# Altium schematic symbol library Passives.SchLib: 42 symbols
Pins are listed as number, name and electrical type; pins without a type are passive.

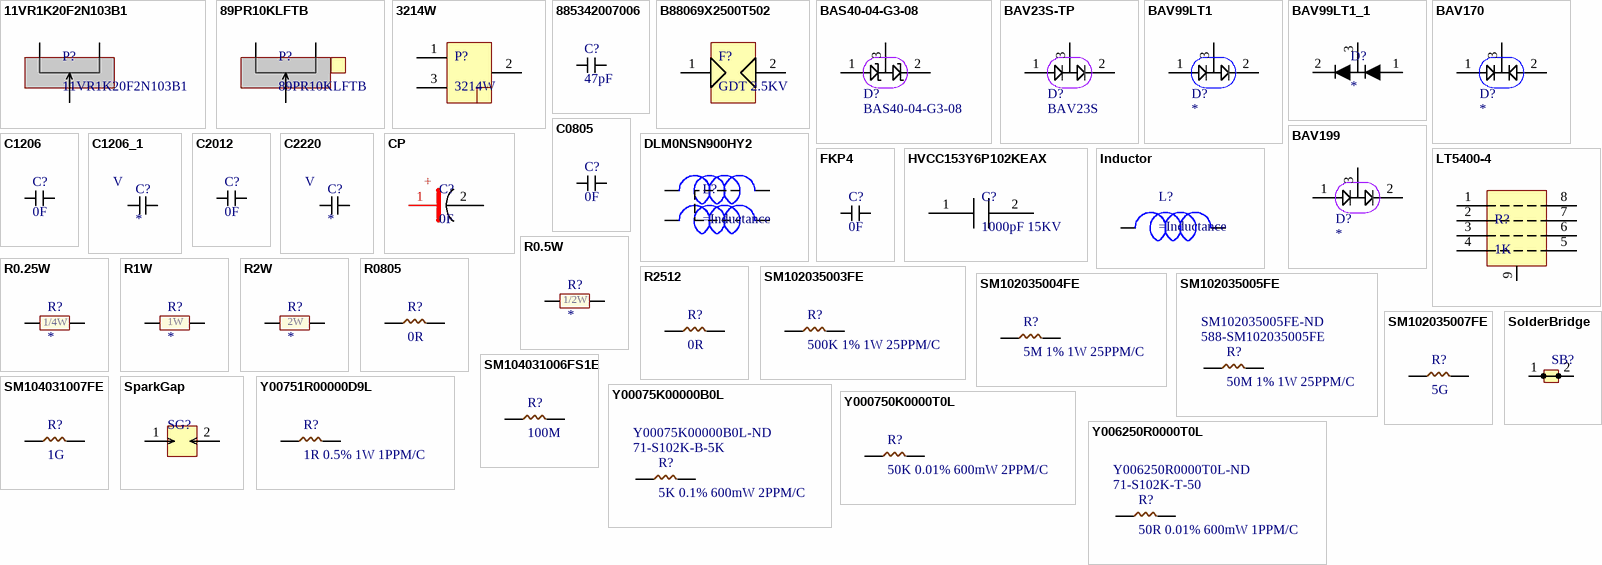
[diagram p0: symbols 11VR1K20F2N103B1 to Y006250R0000T0L]

## 11VR1K20F2N103B1
designator P?
POT 10K PCB; Supplier 1: Digi-Key; Supplier 2: Mouser; Supplier Part Number 1: CT3216-ND; Supplier Part Number 2: 774-11VR1K20F2N103B1
footprint 11VR1K20F2N103B1
pins: 1, 2, 3

## 89PR10KLFTB
designator P?
Supplier 1: Digi-Key; Supplier 2: Mouser; Supplier Part Number 1: 987-1801-5-ND; Supplier Part Number 2: 858-89PR10KLFTB
footprint 89PR10KLFTB (Footprint not found)
pins: 1, 2, 3

## 3214W
designator P?
Bourns 3214W Resistor Trimmer; Resistance: 10K
footprint 3214W (Footprint not found)
pins: 1, 2, 3

## 885342007006
designator C?, comment 47pF
47 pF ±5% 500V Ceramic Capacitor C0G, NP0 0805 (2012 Metric); Capacitance: 47pF; Supplier 1: Digi-Key; Supplier Part Number 1: 732-12170-1-ND
footprint C0805 (Footprint not found)
pins: 1, 2

## B88069X2500T502
designator F?, comment GDT 2.5KV
Gas Discharge Tube 2500 V 2000A (2kA) ±20% 2 Pole Through Hole
footprint GDT (Footprint not found)
pins: 1, 2

## BAS40-04-G3-08
designator D?
Supplier 1: Digi-Key; Supplier 2: Mouser; Supplier Part Number 1: BAS40-04-G3-08GICT-ND; Supplier Part Number 2: 78-BAS40-04-G3-08
footprint SOT23-3 (Footprint not found)
pins: 1, 2, 3

## BAV23S-TP
designator D?, comment BAV23S
Supplier 1: Digi-Key; Supplier 2: Mouser; Supplier Part Number 1: BAV23S-TPMSCT-ND; Supplier Part Number 2: 833-BAV23S-TP
footprint SOT23-3 (Footprint not found)
pins: 1, 2, 3

## BAV99LT1
designator D?
Supplier 1: Mouser; Supplier Part Number 1: 863-BAV99LT1G
footprint SOT23-3 (Footprint not found)
pins: 1, 2, 3

## BAV99LT1_1
designator D?
footprint SOT-23-3 (SOT23, 3-Leads, Body 2.90x2.45mm, Pitch 0.95mm, IPC Medium Density)
pins: 1, 2, 3

## BAV170
designator D?
Supplier 1: Digi-Key; Supplier Part Number 1: BAV170E6327HTSA1CT-ND
footprint SOT23-3 (Footprint not found)
pins: 1, 2, 3

## BAV199
designator D?
Supplier 1: Digi-Key; Supplier 2: Mouser; Supplier Part Number 1: BAV199E6327HTSA1CT-ND; Supplier Part Number 2: 726-BAV199E6327HTSA1
footprint SOT23-3 (Footprint not found)
pins: 1, 2, 3

## C0805
designator C?, comment 0F
Capacitance: 0F
footprint C0805 (Footprint not found)
pins: 1, 2

## C1206
designator C?, comment 0F
Capacitance: 0F
footprint C1206 (Chip Capacitor, 2-Leads, Body 3.20x1.60mm, IPC Medium Density)
pins: 1, 2

## C1206_1
designator C?  Voltage: V
Capacitor 1206; Capacitance: *
footprint C1206 (Chip Capacitor, 2-Leads, Body 3.10x1.50mm, IPC Medium Density)
pins: 1, 2

## C2012
designator C?, comment 0F
Capacitance: 0F
footprint C2012 (Chip Capacitor, 2-Leads, Body 2.00x1.20mm, IPC Medium Density)
pins: 1, 2

## C2220
designator C?  Voltage: V
Capacitor 2220; Capacitance: *
footprint C2220 (Chip Capacitor, 2-Leads, Body 5,70x5,00mm, IPC Medium Density)
pins: 1, 2

## CP
designator C?, comment 0F
Capacitance: 0F
footprint CP1206 (Molded Capacitor, 2-Leads, Body 3.50x2.80mm, IPC Medium Density)
pins: 1, 2
text: +

## DLM0NSN900HY2
designator L?
Resistance: R
footprint DLM0NSN900HY2 (Chip Inductor, 2-Leads, Body 0.65x0.85mm, IPC Medium Density)
pins: 1, 2, 3, 4

## FKP4
designator C?, comment 0F
Capacitance: 0F
footprint FKP4
pins: 1, 2

## HVCC153Y6P102KEAX
designator C?, comment 1000pF 15KV
pins: 1, 2

## Inductor
designator L?
Resistance: R
footprint MELF-0207 (Footprint not found)
pins: 1, 2

## LT5400-4
designator R?, comment 1K
Supplier 1: Mouser; Supplier 2: Digi-Key; Supplier Part Number 1: 584-5400AHMS8E-4PBF; Supplier Part Number 2: LT5400AHMS8E-4#PBF-ND
footprint MS8E (Footprint not found)
pins: 1, 2, 3, 4, 5, 6, 7, 8, 9

## R0.5W
designator R?  Power: 1/2W
Resistor 1/2W; Resistance: *
footprint R1206 (Chip Resistor, 2-Leads, Body 3.10x1.50mm, IPC Medium Density)
pins: 1, 2

## R0.25W
designator R?  Power: 1/4W
Resistor 1/2W; Resistance: *
footprint R0805 (Chip Resistor, 2-Leads, Body 2.00x1.25mm, IPC Medium Density)
pins: 1, 2

## R1W
designator R?  Power: 1W
Resistor 1W; Resistance: *
footprint R2512 (Chip Resistor, 2-Leads, Body 6.30x3.20mm, IPC Medium Density)
pins: 1, 2

## R2W
designator R?  Power: 2W
Resistor 2W; Resistance: *
footprint R2512 (Chip Resistor, 2-Leads, Body 6.30x3.20mm, IPC Medium Density)
pins: 1, 2

## R0805
designator R?, comment 0R
Resistance: 0R
footprint R0805 (Footprint not found)
pins: 1, 2

## R2512
designator R?, comment 0R
Resistance: 0R
footprint R2512 (Footprint not found)
pins: 1, 2

## SM102035003FE
designator R?, comment 500K 1% 1W 25PPM/C
Resistance: 500K; Supplier 1: Mouser; Supplier Part Number 1: 588-SM102035003FE
footprint R2512 (Footprint not found)
pins: 1, 2

## SM102035004FE
designator R?, comment 5M 1% 1W 25PPM/C
Resistance: 5M; Supplier 1: Mouser; Supplier 2: Digi-Key; Supplier Part Number 1: 588-SM102035004FE; Supplier Part Number 2: SM102035004FE-ND
footprint R2512 (Footprint not found)
pins: 1, 2

## SM102035005FE
designator R?, comment 50M 1% 1W 25PPM/C  Supplier Part Number 1: 588-SM102035005FE  Supplier Part Number 2: SM102035005FE-ND
Resistance: 50M; Supplier 1: Mouser; Supplier 2: Digi-Key
footprint R2512 (Footprint not found)
pins: 1, 2

## SM102035007FE
designator R?, comment 5G
Resistance: 5G; Supplier 1: Digi-Key; Supplier 2: Mouser; Supplier Part Number 1: SM102035007FE-ND; Supplier Part Number 2: 588-SM102035007FE
footprint SM102035007FE (Footprint not found)
pins: 1, 2

## SM104031006FS1E
designator R?, comment 100M
Resistance: 100M
footprint SM104031007FE
pins: 1, 2

## SM104031007FE
designator R?, comment 1G
Resistance: 1G
footprint SM104031007FE
pins: 1, 2

## SolderBridge
designator SB?
footprint SB
pins: 1, 2

## SparkGap
designator SG?
footprint SG
pins: 1, 2

## Y00075K00000B0L
designator R?, comment 5K 0.1% 600mW 2PPM/C  Supplier Part Number 1: 71-S102K-B-5K  Supplier Part Number 2: Y00075K00000B0L-ND
Resistance: 5K; Supplier 1: Mouser; Supplier 2: Digi-Key
footprint R2512 (Footprint not found)
pins: 1, 2

## Y000750K0000T0L
designator R?, comment 50K 0.01% 600mW 2PPM/C
Resistance: 50K; Supplier 1: Mouser; Supplier Part Number 1: 71-S102C50K
footprint R2512 (Footprint not found)
pins: 1, 2

## Y00751R00000D9L
designator R?, comment 1R 0.5% 1W 1PPM/C
Resistance: 5R; Supplier 1: Mouser; Supplier 2: Digi-Key; Supplier Part Number 1: 71-VSRT1R0000DB; Supplier Part Number 2: Y00751R00000D9L-ND
footprint R2512 (Footprint not found)
pins: 1, 2

## Y006250R0000T0L
designator R?, comment 50R 0.01% 600mW 1PPM/C  Supplier Part Number 1: 71-S102K-T-50  Supplier Part Number 2: Y006250R0000T0L-ND
Resistance: 50R; Supplier 1: Mouser; Supplier 2: Digi-Key
footprint R2512 (Footprint not found)
pins: 1, 2

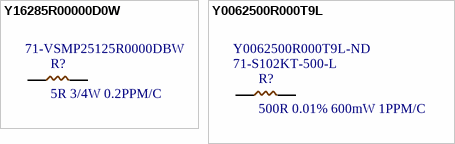
[diagram p1: symbols Y16285R00000D0W to Y0062500R000T9L]

## Y16285R00000D0W
designator R?, comment 5R 3/4W 0.2PPM/C  Supplier Part Number 1: 71-VSMP25125R0000DBW
Resistance: 5R; Supplier 1: Mouser
footprint R2512 (Footprint not found)
pins: 1, 2

## Y0062500R000T9L
designator R?, comment 500R 0.01% 600mW 1PPM/C  Supplier Part Number 1: 71-S102KT-500-L  Supplier Part Number 2: Y0062500R000T9L-ND
Resistance: 500R; Supplier 1: Mouser; Supplier 2: Digi-Key
footprint R2512 (Footprint not found)
pins: 1, 2